# Altium schematic symbol library RPSLib_Oscillators.SchLib: 14 symbols
Pins are listed as number, name and electrical type; pins without a type are passive.

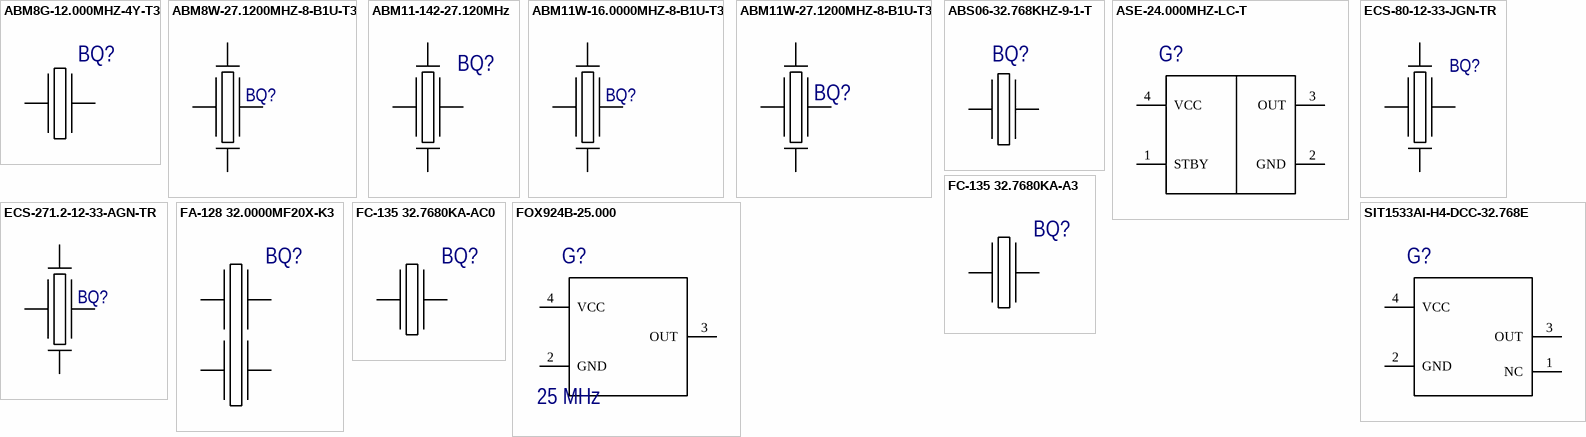
[diagram p0: symbols ABM8G-12.000MHZ-4Y-T3 to SIT1533AI-H4-DCC-32.768E]

## ABM8G-12.000MHZ-4Y-T3
designator BQ?  (value not drawn)
12MHz ±30ppm Crystal 10pF 120 Ohm -10°C ~ 60°C  Surface Mount 4-SMD, No Lead (DFN, LCC); Manufacturer: Abracon; ESR (Equivalent Series Resistance): 120R; Supplier 1: Digi-Key; Manufacturer Part Number: ABM8G-12.000MHZ-4Y-T3; Stock 1: 100422; Pricing 1: 1=0.45, 10=0.371, 50=0.3342, 100=0.297, 500=0.28216, 1000=0.2376 (USD); Mount: Surface Mount; Case/Package: CSMD; Number of Pins: 4; Min Operating Temperature: -10°C; Max Operating Temperature: 60°C; Frequency: 12MHz; Load Capacitance: 10pF; Packaging: Tape and Reel; Frequency Tolerance: 30ppm; Frequency Stability: 30ppm; Series Resistance: 120R; Length: 3.2mm; Height: 0.039inch; Width: 0.098inch; Depth: 2.5mm; REACH SVHC: No SVHC; Lead Free: Lead Free; ComponentLink1URL: https://www.verical.com/server-webapp/html/getDatasheet?partID=719872; ComponentLink1Description: https://www.verical.com/server-webapp/html/getDatasheet?partID=719872; ComponentLink2URL: https://abracon.com/Resonators/ABM8G.pdf; ComponentLink2Description: https://abracon.com/Resonators/ABM8G.pdf; ComponentLink3URL: http://www.abracon.com/Resonators/ABM8G.pdf; ComponentLink3Description: http://www.abracon.com/Resonators/ABM8G.pdf; Supplier Part Number 1: 535-10901-1-ND
footprint ABM8G (Abracon ABM8G Crystal)
pins: 1, 3

## ABM8W-27.1200MHZ-8-B1U-T3
designator BQ?  (value not drawn)
CRYSTAL 27.1200MHZ 8PF SMD; Manufacturer: Abracon; Supplier 1: Digi-Key; Manufacturer Part Number: ABM8W-27.1200MHZ-8-B1U-T3; RoHS: No; Pricing 1: 3000=0,34560 (USD); Supplier Part Number 1: ABM8W-27.1200MHZ-8-B1U-T3-ND
footprint ABM8W (Abracon ABM8W Crystal)
pins: 1, 2, 3 2, 4

## ABM11-142-27.120MHz
designator BQ?  (value not drawn)
27.12MHz ±10ppm Crystal 8pF 40 Ohm -20°C ~ 70°C  Surface Mount 4-SMD, No Lead (DFN, LCC); Manufacturer: Abracon; Manufacturer Part Number: ABM11-142-27.120MHZ-T3; ESR (Equivalent Series Resistance): 40R; Supplier 1: Digi-Key; Stock 1: 4799; Pricing 1: 1=0.62, 10=0.516, 50=0.464, 100=0.4125, 500=0.39188, 1000=0.33 (USD); Mount: Surface Mount; Case/Package: SMD/SMT; Min Operating Temperature: -20°C; Max Operating Temperature: 70°C; Packaging: Tape and Reel; Frequency: 27.12MHz; Load Capacitance: 8pF; Frequency Stability: 10ppm; Frequency Tolerance: 10ppm; Length: 0.081inch; Height: 0.02inch; Width: 0.065inch; Supplier Part Number 1: 535-13524-1-ND; РКД Наименование: *
footprint ABM11 (ABM11 Crystal)
pins: 1, 2, 3 2, 4

## ABM11W-16.0000MHZ-8-B1U-T3
designator BQ?  (value not drawn)
CRYSTAL 16.0000MHZ 8PF SMD, 2x1.6mm, RoHS; Manufacturer: Abracon; Supplier 1: Mouser; Manufacturer Part Number: ABM11W-16.0000MHZ-8-B1U-T3; RoHS: Yes; Category: Crystals; Stock 1: 5764; Pricing 1: 1=0,64000, 10=0,57500, 50=0,57500, 100=0,47500, 1000=0,37500, 10000=0,37200 (USD); RoHS Compliant: Yes; ComponentLink1URL: https://abracon.com/Resonators/ABM11W.pdf?src-supplier=Digi-Key; ComponentLink1Description: https://abracon.com/Resonators/ABM11W.pdf?src-supplier=Digi-Key; Supplier Part Number 1: 815-11W16-8B1UT
footprint ABM11W (ABM11W LOW PROFILE QUARTZ CRYSTAL)
pins: 1, 2, 3 2, 4

## ABM11W-27.1200MHZ-8-B1U-T3
designator BQ?  (value not drawn)
Iot Optimized 27.12MHZ 8PF Crystal; Manufacturer: Abracon; Supplier 1: Digi-Key; Manufacturer Part Number: ABM11W-27.1200MHZ-8-B1U-T3; RoHS: Yes; Category: Crystals; Stock 1: 12000; Pricing 1: 1=0,75000, 10=0,66200, 50=0,61920, 100=0,54720, 500=0,51840, 1000=0,43200 (USD); Supplier Part Number 1: 535-13882-1-ND
footprint ABM11W (ABM11W LOW PROFILE QUARTZ CRYSTAL)
pins: 1, 2, 3 2, 4

## ABS06-32.768KHZ-9-1-T
designator BQ?  (value not drawn)
CRYSTAL 32.7680KHZ 9PF SMD; Manufacturer: Abracon; ESR (Equivalent Series Resistance): 90kR; Tolerance: 10ppm; Supplier 1: Digi-Key; Stock 1: 49513; Pricing 1: 1=0.83, 10=0.734, 50=0.6858, 100=0.6061, 500=0.5742, 1000=0.4785 (USD); Mount: Surface Mount; Case/Package: CSMD; Number of Pins: 2; Min Operating Temperature: -40°C; Max Operating Temperature: 85°C; Frequency: 32.768kHz; Load Capacitance: 9pF; Packaging: Tape and Reel; Package Quantity: 3000; Frequency Tolerance: 10ppm; Termination: SMD/SMT; Series Resistance: 90kR; Length: 2mm; Height: 0.024inch; Width: 1.2mm; Depth: 1.2mm; Radiation Hardening: No; REACH SVHC: No SVHC; ComponentLink1URL: http://www.abracon.com/Resonators/ABS06.pdf?src-supplier=Element14; ComponentLink1Description: http://www.abracon.com/Resonators/ABS06.pdf?src-supplier=Element14; ComponentLink2URL: https://abracon.com/Support/PackageDrawing/Resonators/ABS06.PDF?src-supplier=Digi-Key; ComponentLink2Description: https://abracon.com/Support/PackageDrawing/Resonators/ABS06.PDF?src-supplier=Digi-Key; ComponentLink3URL: http://www.abracon.com/Resonators/ABS06.pdf?src-supplier=Avnet; ComponentLink3Description: http://www.abracon.com/Resonators/ABS06.pdf?src-supplier=Avnet; ComponentLink4URL: http://www.abracon.com/Resonators/ABS06.pdf?src-supplier=Farnell; ComponentLink4Description: http://www.abracon.com/Resonators/ABS06.pdf?src-supplier=Farnell; ComponentLink5URL: http://www.abracon.com/Resonators/ABS06.pdf?src-supplier=Avnet+Asia; ComponentLink5Description: http://www.abracon.com/Resonators/ABS06.pdf?src-supplier=Avnet+Asia; Manufacturer Part Number: ABS06-32.768KHZ-9-1-T; Supplier Part Number 1: 535-10247-1-ND
footprint Abracon ABS06
pins: 1, 2

## ASE-24.000MHZ-LC-T
designator G?  (value not drawn)
XTAL OSC XO 24.0000MHZ CMOS SMD; Manufacturer: Abracon; Frequency: 24MHz; Frequency Stability: 50ppm; Load Capacitance: 15pF; Max Supply Voltage: 2.625V; Min Supply Voltage: 2.375V; Max Supply Current: 13mA; Supplier 1: Digi-Key; Stock 1: 46062; Pricing 1: 1=1.39, 10=1.324, 50=1.2936, 100=1.1088, 500=1.078 (USD); Mount: Surface Mount; Case/Package: SMD/SMT; Number of Pins: 4; Min Operating Temperature: -40°C; Max Operating Temperature: 85°C; Packaging: Tape and Reel; Package Quantity: 1000; Termination: SMD/SMT; Length: 3.2mm; Height: 0.047inch; Width: 0.098inch; Depth: 2.5mm; Radiation Hardening: No; Lead Free: Lead Free; REACH SVHC: No SVHC; ComponentLink1URL: http://www.abracon.com/Oscillators/ASEseries.pdf?src-supplier=Newark; ComponentLink1Description: http://www.abracon.com/Oscillators/ASEseries.pdf?src-supplier=Newark; ComponentLink2URL: https://abracon.com/Support/PackageDrawing/Oscillators/ASE.PDF?src-supplier=Digi-Key; ComponentLink2Description: https://abracon.com/Support/PackageDrawing/Oscillators/ASE.PDF?src-supplier=Digi-Key; ComponentLink3URL: https://www.verical.com/server-webapp/html/getDatasheet?partID=719758&src-supplier=Verical; ComponentLink3Description: https://www.verical.com/server-webapp/html/getDatasheet?partID=719758&src-supplier=Verical; Supplier Part Number 1: 535-9566-1-ND; Manufacturer Part Number: ASE-24.000MHZ-LC-T
footprint ASE Abracon
pins: 1 STBY, 2 GND, 3 OUT, 4 VCC

## ECS-80-12-33-JGN-TR
designator BQ?  (value not drawn)
Crystal 8MHz ±20ppm (Tol) ±30ppm (Stability) 12pF FUND 400Ohm 4-Pin Mini-CSMD T/R; Manufacturer: ECS International; Supplier 1: Digi-Key; Manufacturer Part Number: ECS-80-12-33-JGN-TR; RoHS: Yes; Stock 1: 1979; Pricing 1: 1=0,66000, 10=0,58100, 50=0,54280, 100=0,47980, 500=0,45450 (USD); Supplier Part Number 1: 50-ECS-80-12-33-JGN-CT-ND
footprint SCX-32 (ECS Inc SCX-32 Crystall)
pins: 1, 2, 3, 4

## ECS-271.2-12-33-AGN-TR
designator BQ?  (value not drawn)
Crystal 27.12MHz ±25ppm (Tol) ±30ppm (Stability) 12pF FUND 40Ohm 4-Pin Mini-CSMD T/R; Manufacturer: ECS International; Supplier 1: Digi-Key; Manufacturer Part Number: ECS-271.2-12-33-AGN-TR; RoHS: Yes; Stock 1: 3129; Pricing 1: 1=0,56000, 10=0,46700, 50=0,42040, 100=0,37370, 500=0,35502 (USD); RoHS Compliant: No; Supplier Part Number 1: XC2655CT-ND
footprint SCX-32 (ECS Inc SCX-32 Crystall)
pins: 1, 2, 3, 4

## FA-128 32.0000MF20X-K3
designator BQ?  (value not drawn)
Crystals 32MHz 10ppm 10pF -40C +85C; Manufacturer: Epson; Frequency Stability: 20ppm; ESR (Equivalent Series Resistance): 60R; РКД Наименование: FA-128 32.0000MF20X-K3 - 32 MHz Crystal, 10 pF; Supplier 1: Digi-Key; Manufacturer Part Number: FA-12832.0000MF20X-K3; Stock 1: 36825; Pricing 1: 1=0.59, 10=0.495, 50=0.4456, 100=0.396 (USD); Mount: Surface Mount; Case/Package: SMD/SMT; Number of Pins: 4; Min Operating Temperature: -40°C; Max Operating Temperature: 85°C; Frequency: 32MHz; Load Capacitance: 10pF; Frequency Tolerance: 10ppm; Packaging: Tape and Reel; Tolerance: 10ppm; Package Quantity: 250; Termination: SMD/SMT; Length: 0.079inch; Height: 0.02inch; Width: 0.063inch; Lead Free: Lead Free; Supplier Part Number 1: SER3800CT-ND
footprint BT-XTAL_2016 (Crystal 2.0 x 1.6 mm)
pins: 1, 2, 3 2, 4

## FC-135 32.7680KA-A3
designator BQ?  (value not drawn)
32.768kHz ±20ppm Crystal 12.5pF 70 kOhms 2-SMD, No Lead; Manufacturer: Epson; РКД Наименование: FC-13532.7680KA-AC0 - 32.768 kHz Crystal; ESR (Equivalent Series Resistance): 70kR; Supplier 1: Digi-Key; Supplier Part Number 1: SE2413CT-ND; Manufacturer Part Number: FC-13532.7680KA-A3; Stock 1: 252080; Pricing 1: 1=0.41, 10=0.344, 50=0.3094, 100=0.275 (USD); Mount: Surface Mount; Case/Package: SMD/SMT; Number of Pins: 2; Weight: 0.000564oz; Min Operating Temperature: -40°C; Max Operating Temperature: 85°C; Frequency: 32.768kHz; Frequency Tolerance: 20ppm; Load Capacitance: 12.5pF; Packaging: Tape and Reel; Package Quantity: 1; Tolerance: 20ppm; Termination: SMD/SMT; Frequency Stability: 20ppm; Length: 3.2mm; Height: 0.035inch; Width: 0.059inch; Depth: 1.5mm; Lead Free: Contains Lead; ComponentLink1URL: https://www.verical.com/server-webapp/html/getDatasheet?partID=112713&src-supplier=Verical; ComponentLink1Description: https://www.verical.com/server-webapp/html/getDatasheet?partID=112713&src-supplier=Verical; ComponentLink2URL: https://www.verical.com/server-webapp/html/getDatasheet?partID=788185&src-supplier=Verical; ComponentLink2Description: https://www.verical.com/server-webapp/html/getDatasheet?partID=788185&src-supplier=Verical
footprint XTAL_3215
pins: 1, 2

## FC-135 32.7680KA-AC0
designator BQ?  (value not drawn)
Crystals 32.768KHz 20ppm 9.0pF -40C -85C; Manufacturer: Epson; ESR (Equivalent Series Resistance): 70kR; Load Capacitance: 9pF; РКД Наименование: FC-13532.7680KA-AC0 - 32.768 kHz Crystal; Supplier 1: Digi-Key; Manufacturer Part Number: FC-13532.7680KA-AC0; Stock 1: 0; Mount: Surface Mount; Case/Package: SMD/SMT; Weight: 0.000564oz; Min Operating Temperature: -40°C; Max Operating Temperature: 85°C; Frequency: 32.768kHz; Packaging: Tape and Reel; Frequency Tolerance: 20ppm; Package Quantity: 1000; Tolerance: 20ppm; Termination: SMD/SMT; Frequency Stability: 20ppm; Length: 0.126inch; Height: 0.035inch; Width: 0.059inch; Radiation Hardening: No; Supplier Part Number 1: SER4084CT-ND
footprint XTAL_3215
pins: 1, 2

## FOX924B-25.000
designator G?  value 25 MHz  (hidden comment: FOX924B-25.000)
OSC TCXO 25.000MHZ HCMOS SMD; Manufacturer: Fox Electronics; РКД Наименование: FOX924B-25.000 - TCXO 25 MHz; Load Capacitance: 15pF; Frequency Tolerance: 1.5ppm; Operating Supply Voltage: 3.3V; Frequency Stability: 2.5ppm; Frequency: 25MHz; Min Supply Voltage: 3.135V; Max Supply Voltage: 3.465V; Max Supply Current: 6mA; PartNo: FOX924B-25.000; Supplier 1: Digi-Key; Manufacturer Part Number: FOX924B-25.000; Stock 1: 0; Mount: Surface Mount; Case/Package: SMD/SMT; Number of Pins: 4; Min Operating Temperature: -30°C; Max Operating Temperature: 85°C; Packaging: Tape and Reel; Package Quantity: 1000; Length: 0.197inch; Height: 0.059inch; Width: 0.126inch; Radiation Hardening: No; REACH SVHC: No SVHC; Lead Free: Lead Free; Supplier Part Number 1: 631-1074-1-ND
footprint FOX924 (Ultra Miniature SMD TCXO, 5x7mm)
pins: 2 GND, 3 OUT, 4 VCC

## SIT1533AI-H4-DCC-32.768E
designator G?  (value not drawn)
MEMS OSC XO 32.7680KHZ LVCMOS; Manufacturer: SiTime; Frequency: 32.768kHz; Frequency Stability: 100ppm; Max Supply Current: 1.4uA; Load Capacitance: 10pF; Min Supply Voltage: 1.5V; Max Supply Voltage: 3.63V; Current Rating: 1.35uA; Max Duty Cycle: 52%; Supplier 1: Digi-Key; Stock 1: 109619; Pricing 1: 1=1.21, 10=1.072, 50=1.0018, 100=0.8852, 500=0.83866 (USD); Mount: Surface Mount; Case/Package: SMD/SMT; Number of Pins: 4; Min Operating Temperature: -40°C; Max Operating Temperature: 85°C; Packaging: Tape and Reel; Termination: SMD/SMT; Package Quantity: 1000; Length: 0.079inch; Height: 0.024inch; Width: 0.047inch; Manufacturer Part Number: SIT1533AI-H4-DCC-32.768E; Supplier Part Number 1: 1473-1239-1-ND
footprint SIT1533
pins: 1 NC, 2 GND, 3 OUT, 4 VCC